# Altium schematic symbol library Documents.SCHLIB: 16 symbols
Pins are listed as number, name and electrical type; pins without a type are passive.

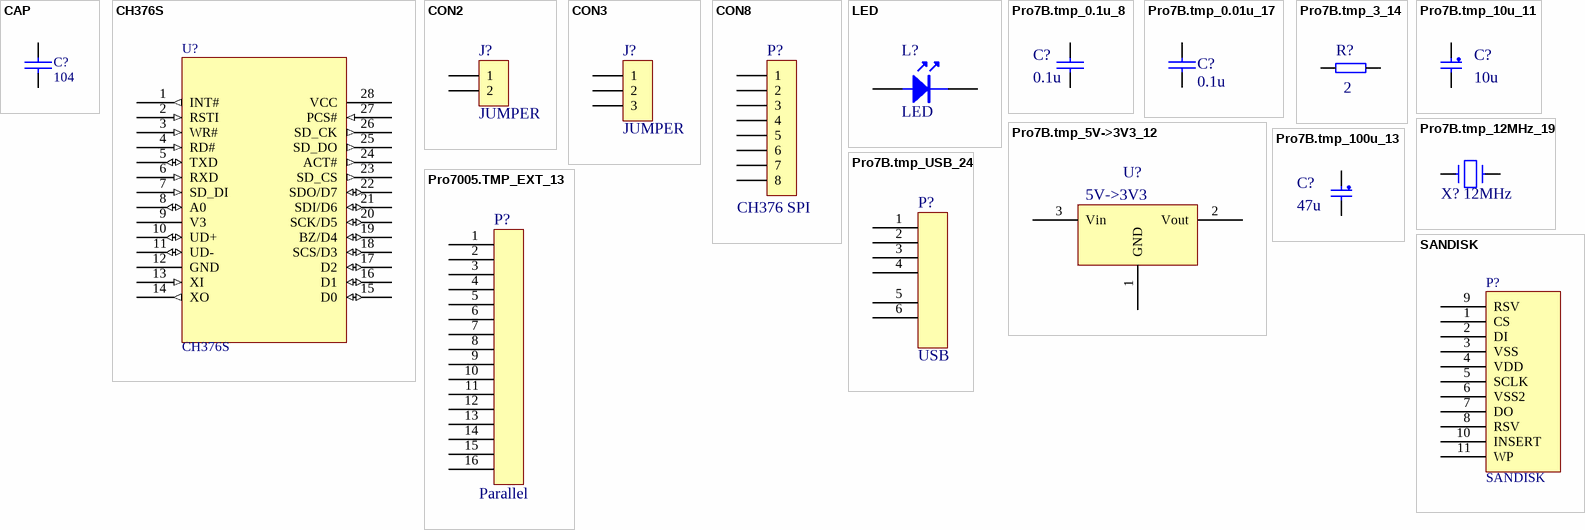
[diagram p0: symbols CAP to SANDISK]

## CAP
designator C?, comment 104
Capacitor
footprint 0805
pins: 1, 2

## CH376S
designator U?
USB Host and SD card Host with File System & USB Device for MCU, parallel / SPI / UART Serial
footprint SOP28
footprint DIP28
pins: 1 INT# (out), 2 RSTI (in), 3 WR# (in), 4 RD# (in), 5 TXD (io), 6 RXD (in), 7 SD_DI (in), 8 A0 (io), 9 V3 (power), 10 UD+ (io), 11 UD- (io), 12 GND (power), 13 XI (in), 14 XO (out), 15 D0 (io), 16 D1 (io), 17 D2 (io), 18 SCS/D3 (io), 19 BZ/D4 (io), 20 SCK/D5 (io), 21 SDI/D6 (io), 22 SDO/D7 (io), 23 SD_CS (out), 24 ACT# (out), 25 SD_DO (out), 26 SD_CK (out), 27 PCS# (in), 28 VCC (power)

## CON2
designator J?, comment JUMPER
Connector
footprint SIP2
pins: 1, 2

## CON3
designator J?, comment JUMPER
Connector
footprint SIP3
pins: 1, 2, 3

## CON8
designator P?, comment CH376 SPI
Connector
footprint IDC8
pins: 1, 2, 3, 4, 5, 6, 7, 8

## LED
designator L?
footprint DIODE0.1
pins: 1 A, 2 K

## Pro7B.tmp_0.1u_8
designator C?, comment 0.1u
footprint 0805
pins: 1, 2

## Pro7B.tmp_0.01u_17
designator C?, comment 0.1u
footprint 0805
pins: 1, 2

## Pro7B.tmp_3_14
designator R?, comment 2
footprint 0805
pins: 1, 2

## Pro7B.tmp_5V->3V3_12
designator U?, comment 5V->3V3
footprint SOT-33
footprint 3.3_S
pins: 1 GND, 2 Vout, 3 Vin

## Pro7B.tmp_10u_11
designator C?, comment 10u
footprint 3216
pins: 1, 2

## Pro7B.tmp_12MHz_19
designator X?, comment 12MHz
footprint XTAL1
pins: 1, 2

## Pro7B.tmp_100u_13
designator C?, comment 47u
footprint CD0.1
footprint 3528
pins: 1, 2

## Pro7B.tmp_USB_24
designator P?, comment USB
footprint USBA
pins: 1, 2, 3, 4, 5, 6

## Pro7005.TMP_EXT_13
designator P?, comment Parallel
footprint IDC16
pins: 1, 2, 3, 4, 5, 6, 7, 8, 9, 10, 11, 12, 13, 14, 15, 16

## SANDISK
designator P?
footprint SD
pins: 1 CS, 2 DI, 3 VSS, 4 VDD, 5 SCLK, 6 VSS2, 7 DO, 8 RSV, 9 RSV, 10 INSERT, 11 WP